# EAGLE library part ECC81 (library radiotubes)
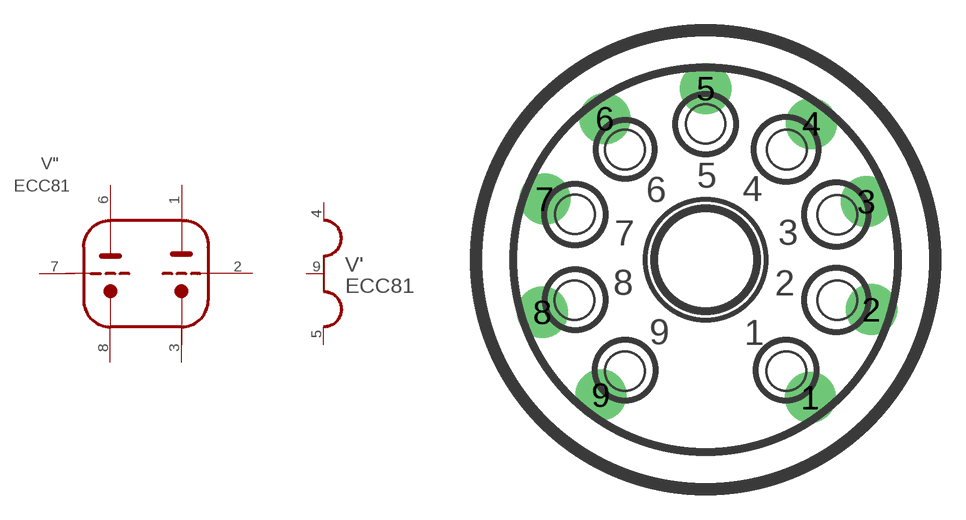
[diagram p119: symbol with the pads of NOVAL; footprint NOVAL]

Designator prefix V; gates "=TWIN-TRIODE '=HEATER_2

## ECC81  [NOVAL]
1  ":AII  pas
2  ":GII  pas
3  ":KII  pas
4  ':H1  pas
5  ':H3  pas
6  ":AI  pas
7  ":GI  pas
8  ":KI  pas
9  ':H2  pas

## Footprint NOVAL (pad centres in mm)
drill 1.422 pad 2.54: 1 5.207,-6.858; 2 8.254,-2.484; 3 8.004,2.893; 4 5.258,6.77; 5 0,8.524; 6 -5.004,7.024; 7 -8.004,3.02; 8 -8.127,-2.611; 9 -5.207,-6.731